# Altium schematic symbol library solder_bridge.SchLib: 1 symbol
Pins are listed as number, name and electrical type; pins without a type are passive.

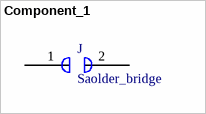
[diagram p0: symbol Component_1]

## Component_1
designator J, comment Saolder_bridge
footprint Solder Bridge
pins: 1, 2